# Altium integrated library ESP8266Lib.IntLib: 3 symbols
Pins are listed as number, name and electrical type; pins without a type are passive.

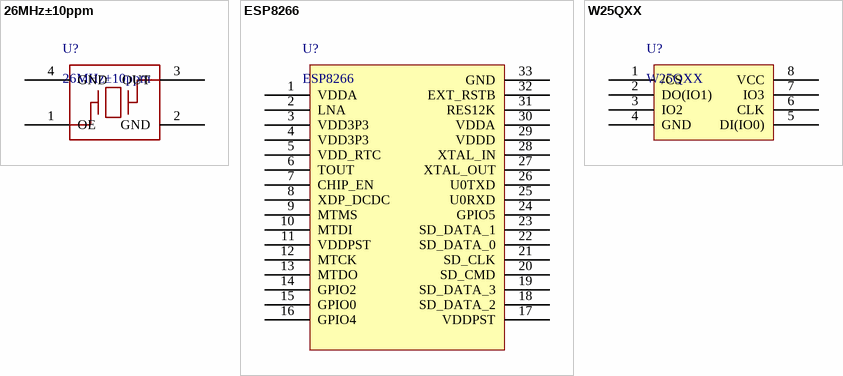
[diagram p0: symbols 26MHz±10ppm to W25QXX]

## 26MHz±10ppm
designator U?
footprint 3225
pins: 1 OE, 2 GND, 3 OUT, 4 GND

## ESP8266
designator U?
footprint ESP8266EX
pins: 1 VDDA, 2 LNA, 3 VDD3P3, 4 VDD3P3, 5 VDD_RTC, 6 TOUT, 7 CHIP_EN, 8 XDP_DCDC, 9 MTMS, 10 MTDI, 11 VDDPST, 12 MTCK, 13 MTDO, 14 GPIO2, 15 GPIO0, 16 GPIO4, 17 VDDPST, 18 SD_DATA_2, 19 SD_DATA_3, 20 SD_CMD, 21 SD_CLK, 22 SD_DATA_0, 23 SD_DATA_1, 24 GPIO5, 25 U0RXD, 26 U0TXD, 27 XTAL_OUT, 28 XTAL_IN, 29 VDDD, 30 VDDA, 31 RES12K, 32 EXT_RSTB, 33 GND

## W25QXX
designator U?
footprint SOIC-8_208mil
pins: 1 /CS, 2 DO(IO1), 3 IO2, 4 GND, 5 DI(IO0), 6 CLK, 7 IO3, 8 VCC